# EAGLE library part MT48LC4M16A2 (library NewSDR)
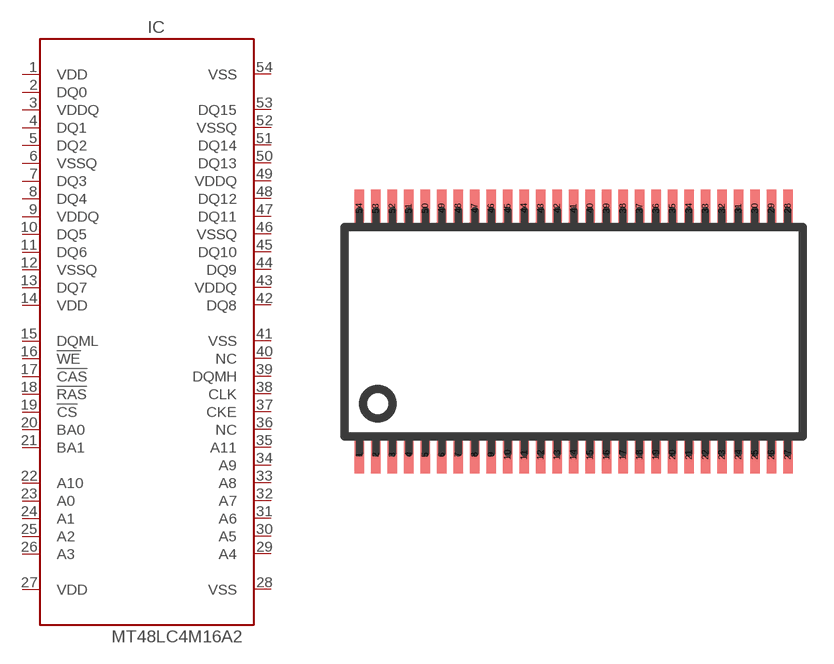
[diagram p43: symbol with the pads of TSOP_II; footprint TSOP_II]

Designator prefix IC

## MT48LC4M16A2  [TSOP_II]
1  VDD  pwr
2  DQ0
3  VDDQ  pwr
4  DQ1
5  DQ2
6  VSSQ  pwr
7  DQ3
8  DQ4
9  VDDQ  pwr
10  DQ5
11  DQ6
12  VSSQ  pwr
13  DQ7
14  VDD  pwr
15  DQML  in
16  !WE  in
17  !CAS  in
18  !RAS  in
19  !CS  in
20  BA0
21  BA1
22  A10  in
23  A0  in
24  A1  in
25  A2  in
26  A3  in
27  VDD  pwr
28  VSS  pwr
29  A4  in
30  A5  in
31  A6  in
32  A7  in
33  A8  in
34  A9  in
35  A11  in
36  NC  nc
37  CKE  in
38  CLK  in
39  DQMH  in
40  NC
41  VSS  pwr
42  DQ8
43  VDDQ  pwr
44  DQ9
45  DQ10
46  VSSQ  pwr
47  DQ11
48  DQ12
49  VDDQ  pwr
50  DQ13
51  DQ14
52  VSSQ  pwr
53  DQ15
54  VSS  pwr

## Footprint TSOP_II (pad centres in mm)
TSOP II 400 mil 54-Pin
smd 0.45 x 1.8: 1 -10.4,-5.98; 2 -9.6,-5.98; 3 -8.8,-5.98; 4 -8,-5.98; 5 -7.2,-5.98; 6 -6.4,-5.98; 7 -5.6,-5.98; 8 -4.8,-5.98; 9 -4,-5.98; 10 -3.2,-5.98; 11 -2.4,-5.98; 12 -1.6,-5.98; 13 -0.8,-5.98; 14 0,-5.98; 15 0.8,-5.98; 16 1.6,-5.98; 17 2.4,-5.98; 18 3.2,-5.98; 19 4,-5.98; 20 4.8,-5.98; 21 5.6,-5.98; 22 6.4,-5.98; 23 7.2,-5.98; 24 8,-5.98; 25 8.8,-5.98; 26 9.6,-5.98; 27 10.4,-5.98; 28 10.4,5.98; 29 9.6,5.98; 30 8.8,5.98; 31 8,5.98; 32 7.2,5.98; 33 6.4,5.98; 34 5.6,5.98; 35 4.8,5.98; 36 4,5.98; 37 3.2,5.98; 38 2.4,5.98; 39 1.6,5.98; 40 0.8,5.98; 41 0,5.98; 42 -0.8,5.98; 43 -1.6,5.98; 44 -2.4,5.98; 45 -3.2,5.98; 46 -4,5.98; 47 -4.8,5.98; 48 -5.6,5.98; 49 -6.4,5.98; 50 -7.2,5.98; 51 -8,5.98; 52 -8.8,5.98; 53 -9.6,5.98; 54 -10.4,5.98